# Altium footprint library sot.PcbLib: 17 footprints (part 1 of 2)
Each footprint in its own frame and in the unit in brackets; x right, y up, seen from the top. Pads: shape width x height; smd on the part's side, far side on the other; paste and mask are expansions set on the pad; w line width, h text height; cw(c..) or ccw(c..) is an arc to the next point about the centre after c.
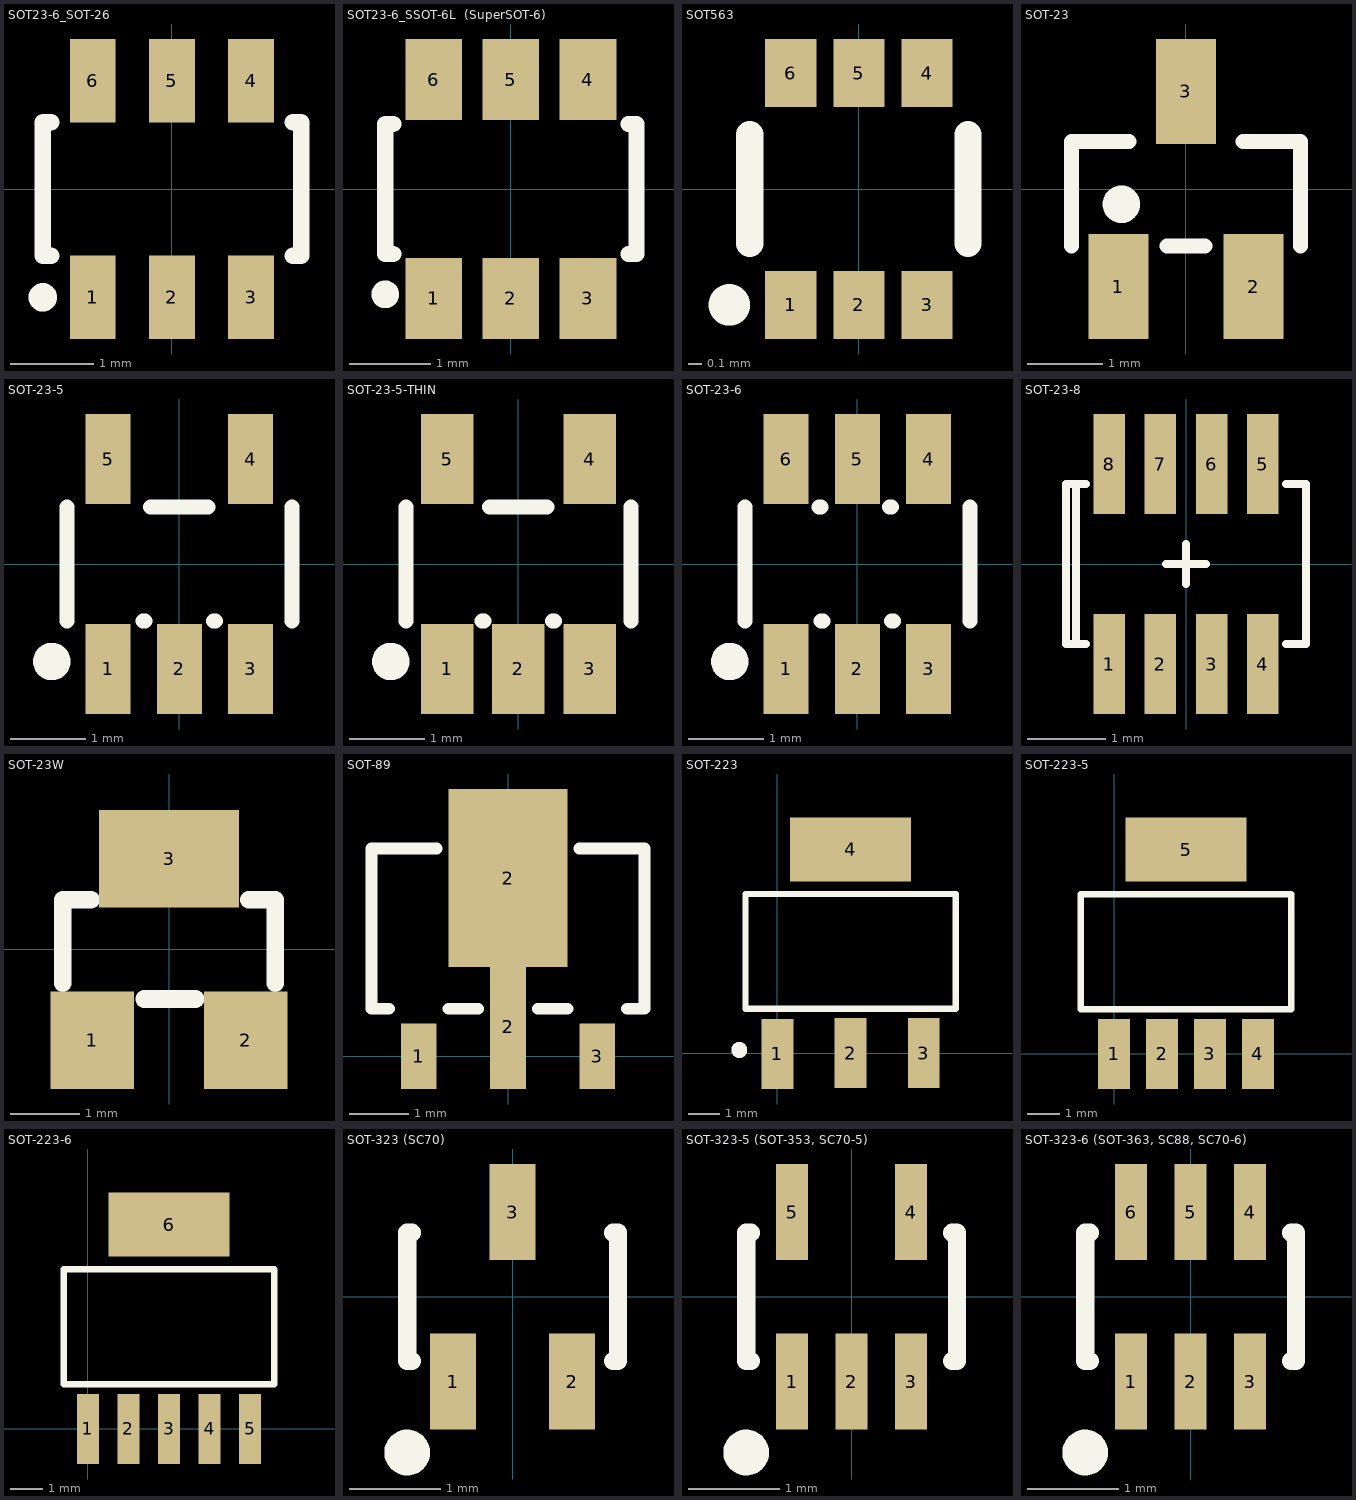
[diagram p0: the footprints below, top view; thin cyan lines are the x and y axes]

## SOT23-6_SOT-26 [mm]
pads (6):
  rect 0.55x1 smd: 1(-0.95,-1.3) 2(0,-1.3) 3(0.95,-1.3) 4(0.95,1.3) 5(0,1.3) 6(-0.95,1.3)
Top Overlay:
  circle w0.2: c-1.55,-1.3 r0.071
  lines w0.2: -1.45,-0.8 -1.55,-0.8 -1.55,0.8 -1.45,0.8 ; 1.45,-0.8 1.55,-0.8 1.55,0.8 1.45,0.8
3D body "User Library-ZXTC2045E6TA.step": height 1.4, standoff 0, extent -1.55,-1.5 1.55,1.5

## SOT23-6_SSOT-6L  (SuperSOT-6) [mm]
pads (6):
  rect 0.7x1 smd: 1(-0.95,-1.35) 2(0,-1.35) 3(0.95,-1.35) 4(0.95,1.35) 5(0,1.35) 6(-0.95,1.35)
Top Overlay:
  circle w0.2: c-1.55,-1.3 r0.071
  lines w0.2: -1.45,-0.8 -1.55,-0.8 -1.55,0.8 -1.45,0.8 ; 1.45,-0.8 1.55,-0.8 1.55,0.8 1.45,0.8
3D body "User Library-SSOT-6.STEP": height 1.05, standoff 0, extent -1.5,-1.5 1.5,1.5

## SOT563 [mm]
pads (6):
  rect 0.375x0.5 smd: 1(-0.5,-0.85) 2(0,-0.85) 3(0.5,-0.85) 4(0.5,0.85) 5(0,0.85) 6(-0.5,0.85)
Top Overlay:
  circle w0.254: c-0.95,-0.85 r0.025
  lines w0.2: -0.8,-0.4 -0.8,0.4 ; 0.8,-0.4 0.8,0.4
3D body "User Library-SOT-563.step": height 0.58, standoff 0, extent -0.8,-0.813 0.8,0.813

## SOT-23 [mm]
pads (3):
  rect 0.8x1.4 smd: 1(-0.9,-1.3) 2(0.9,-1.3) 3(0,1.3)
Top Overlay:
  circle w0.25: c-0.862,-0.203 r0.125
  lines w0.2: -1.524,-0.762 -1.524,0.635 -0.762,0.635 ; -0.254,-0.762 0.254,-0.762 ; 0.762,0.635 1.524,0.635 1.524,-0.762
3D body "SW3dPS-3-lead sot23-3.step": height 1, standoff -0.02, extent -1.46,-1.25 1.46,1.226

## SOT-23-5 [mm] ", AKA: SOT753 (NXP), TSOP5 (NXP)"
pads (5):
  rect 0.6x1.2 smd mask+0.07: 1(-0.95,-1.4) 2(0,-1.4) 3(0.95,-1.4) 4(0.95,1.4) 5(-0.95,1.4)
Top Overlay:
  circle w0.25: c-1.7,-1.3 r0.125
  lines w0.2: -1.5,-0.762 -1.5,0.762 ; -0.483,-0.762 -0.457,-0.762 ; -0.381,0.762 0.381,0.762 ; 0.457,-0.762 0.483,-0.762 ; 1.5,-0.762 1.5,0.762
3D body "SW3dPS-SOT23-5.STEP": height 1.14, standoff 0.04, extent -1.45,-1.403 1.45,1.397

## SOT-23-5-THIN [mm] ", AKA: SOT753 (NXP), TSOP5 (NXP)"
pads (5):
  rect 0.7x1.2 smd: 1(-0.95,-1.4) 2(0,-1.4) 3(0.95,-1.4) 4(0.95,1.4) 5(-0.95,1.4)
Top Overlay:
  circle w0.25: c-1.7,-1.3 r0.125
  lines w0.2: -1.5,-0.762 -1.5,0.762 ; -0.483,-0.762 -0.457,-0.762 ; -0.381,0.762 0.381,0.762 ; 0.457,-0.762 0.483,-0.762 ; 1.5,-0.762 1.5,0.762
3D body "SOT23_5.stp": height 0.92, standoff 0.01, extent -1.5,-1.602 1.5,1.602

## SOT-23-6 [mm] "SOT23-6, AKA: SOT-26 (Diodes), SuperSOT-6 (Fairchild), SOT753 (NXP), TSOP5 (NXP)"
pads (6):
  rect 0.6x1.2 smd mask+0.07: 1(-0.95,-1.4) 2(0,-1.4) 3(0.95,-1.4) 4(0.95,1.4) 5(0,1.4) 6(-0.95,1.4)
Top Overlay:
  circle w0.25: c-1.7,-1.3 r0.125
  lines w0.2: -1.5,-0.762 -1.5,0.762 ; -0.508,0.762 -0.483,0.762 ; -0.483,-0.762 -0.457,-0.762 ; 0.432,0.762 0.457,0.762 ; 0.457,-0.762 0.483,-0.762 ; 1.5,-0.762 1.5,0.762
3D body "User Library-sot-23-6-2.step": height 1.09, standoff 0, extent -1.397,-1.213 1.397,1.213

## SOT-23-8 [mm]
pads (8):
  rect 0.4x1.27 smd: 1(-0.975,-1.27) 2(-0.325,-1.27) 3(0.325,-1.27) 4(0.975,-1.27) 5(0.975,1.27) 6(0.325,1.27) 7(-0.325,1.27) 8(-0.975,1.27)
Top Overlay:
  lines w0.102: -1.4,-1.016 -1.4,1.016 ; -1.27,-1.016 -1.524,-1.016 -1.524,1.016 -1.27,1.016 ; -0.254,0 0.254,0 ; 0,-0.254 0,0.254 ; 1.27,-1.016 1.524,-1.016 1.524,1.016 1.27,1.016
3D body "User Library-TSOT-23-8.STEP": height 1, standoff 0, extent -1.45,-1.4 1.45,1.4

## SOT-23W [mm]
pads (3):
  rect 1.2x1.4 smd: 1(-1.1,-1.3) 2(1.1,-1.3)
  rect 2x1.4 smd: 3(0,1.3)
Top Overlay:
  lines w0.254: -1.524,-0.483 -1.524,0.711 -1.118,0.711 ; -0.356,-0.711 0.381,-0.711 ; 1.143,0.711 1.524,0.711 1.524,-0.483
3D body "SW3dPS-3-lead sot23-3.step": height 1, standoff -0.02, extent -1.46,-1.25 1.46,1.226

## SOT-89 [mm]
pads (4):
  rect 0.6x1.1 smd: 1(-1.5,0) 3(1.5,0)
  rect 0.6x2.1 smd: 2(0,0.5)
  rect 2x3 smd: 2(0,3)
Top Overlay:
  lines w0.2: -2,0.8 -2.3,0.8 -2.3,3.5 -1.2,3.5 ; -1,0.8 -0.5,0.8 ; 0.5,0.8 1,0.8 ; 1.2,3.5 2.3,3.5 2.3,0.8 2,0.8
3D body "SW3dPS-SOT89.STEP": height 1.59, standoff -0.02, extent -2.3,-0.1 2.3,4.15

## SOT-223 [mm]
height 1.75
pads (4):
  rect 1x2.2 smd: 1(0,-0.027) 2(2.3,0) 3(4.6,0)
  rect 3.8x2 smd: 4(2.3,6.4)
Top Overlay:
  circle w0.25: c-1.2,0.1 r0.125
  lines w0.2: -1,1.4 5.6,1.4 5.6,5 -1,5 -1,1.4
3D body "SW3dPS-sot-223.step": height 1.64, standoff -0.04, extent -0.964,-0.318 5.536,6.614

## SOT-223-5 [mm]
pads (5):
  rect 1x2.2 smd: 1(0,0) 2(1.5,0) 3(3,0) 4(4.5,0)
  rect 3.8x2 smd: 5(2.25,6.4)
Top Overlay:
  lines w0.2: -1.05,1.4 -1.05,5 5.55,5 5.55,1.4 -1.05,1.4
3D body "User Library-User Library-SOT-223-5.step": height 1.64, standoff -0.01, extent -1,-0.3 5.5,6.7

## SOT-223-6 [mm]
pads (6):
  rect 0.7x2.2 smd: 1(0,0) 2(1.27,0) 3(2.54,0) 4(3.81,0) 5(5.08,0)
  rect 3.8x2 smd: 6(2.54,6.4)
Top Overlay:
  lines w0.2: -0.76,1.4 5.84,1.4 5.84,5 -0.76,5 -0.76,1.4
3D body "User Library-SOT223-6.STEP": height 2.04, standoff -0.03, extent -0.735,-0.457 5.815,6.803

## SOT-323 (SC70) [mm]
pads (3):
  rect 0.5x1.05 smd: 1(-0.65,-0.925) 2(0.65,-0.925) 3(0,0.925)
Top Overlay:
  circle w0.25: c-1.15,-1.7 r0.125
  lines w0.2: -1.1,-0.7 -1.15,-0.7 -1.15,0.7 -1.1,0.7 ; 1.1,-0.7 1.15,-0.7 1.15,0.7 1.1,0.7
3D body "User Library-SOT323 (SC70-3)-1.STEP": height 1.1, standoff 0, extent -1.1,-1.122 1.1,1.123

## SOT-323-5 (SOT-353, SC70-5) [mm] "SOT-353/SC-88A; 5 Leads; Body 2.2 x 2.2 mm, inc. leads (LxW max)"
height 1.1
pads (5):
  rect 0.35x1.05 smd: 1(-0.65,-0.925) 2(0,-0.925) 3(0.65,-0.925) 4(0.65,0.925) 5(-0.65,0.925)
Top Overlay:
  circle w0.25: c-1.15,-1.7 r0.125
  lines w0.2: -1.1,-0.7 -1.15,-0.7 -1.15,0.7 -1.1,0.7 ; 1.1,-0.7 1.15,-0.7 1.15,0.7 1.1,0.7
3D body "User Library-sot353.step": height 1, standoff 0, extent -1.05,-1.125 1.05,1.175

## SOT-323-6 (SOT-363, SC88, SC70-6) [mm] "SOT-363; 6 Leads; Body 2.2 x 2.2 mm, inc. leads (LxW max)"
height 1.1
pads (6):
  rect 0.35x1.05 smd: 1(-0.65,-0.925) 2(0,-0.925) 3(0.65,-0.925) 4(0.65,0.925) 5(0,0.925) 6(-0.65,0.925)
Top Overlay:
  circle w0.25: c-1.15,-1.7 r0.125
  lines w0.2: -1.1,-0.7 -1.15,-0.7 -1.15,0.7 -1.1,0.7 ; 1.1,-0.7 1.15,-0.7 1.15,0.7 1.1,0.7
3D body "User Library-sot363.step": height 1, standoff 0, extent -1.05,-1.15 1.05,1.15